# Altium schematic symbol library LDO_Micrel_MIC94355-GYMTTR.SchLib: 1 symbol
Pins are listed as number, name and electrical type; pins without a type are passive.

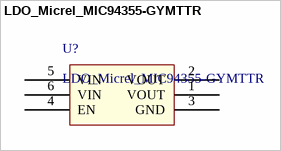
[diagram p0: symbol LDO_Micrel_MIC94355-GYMTTR]

## LDO_Micrel_MIC94355-GYMTTR
designator U?
IC REG LDO 1.8V .5A 6TDFN
pins: 1 VOUT, 2 VOUT, 3 GND, 4 EN, 5 VIN, 6 VIN